# Altium schematic symbol library R 1206 1% YAGEO.SchLib: 30 symbols
Pins are listed as number, name and electrical type; pins without a type are passive.

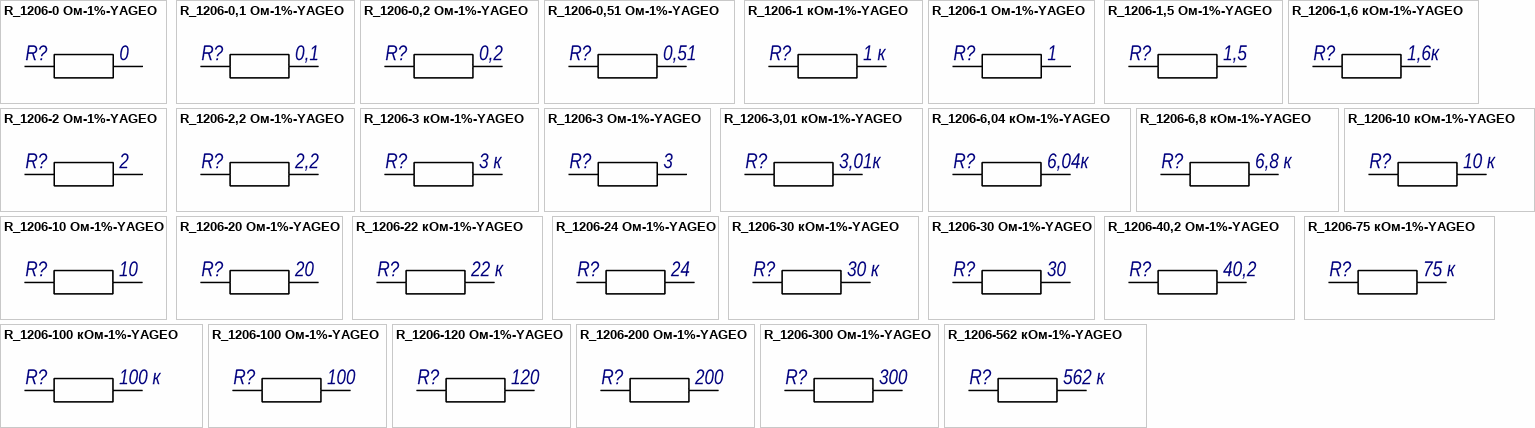
[diagram p0: symbols R_1206-0 Ом-1%-YAGEO to R_1206-562 кОм-1%-YAGEO]

## R_1206-0 Ом-1%-YAGEO
designator R?, comment value 0  (hidden comment: Резистор чип 1206-0,25 Вт-0 Ом ±1% фирма "YAGEO")
чип 1206-0,25 Вт-0 Ом ±1% фирма "YAGEO"; Power: 0,25 Вт; Tol: 1%; Manufacturer: фирма "YAGEO"; GOST: Резистор чип 1206-0,25 Вт-0 Ом ±1% фирма "YAGEO"; Name: Резистор; TYP: чип 1206
footprint R1206_H06M (Dim 3.2mm*1.6mm H=0.6mm)
pins: 1, 2
1 alternate drawing of the same symbol

## R_1206-0,1 Ом-1%-YAGEO
designator R?, comment value 0,1  (hidden comment: Резистор чип 1206-0,25 Вт-0,1 Ом ±1% фирма "YAGEO")
чип 1206-0,25 Вт-0,1 Ом ±1% фирма "YAGEO"; Power: 0,25 Вт; Tol: 1%; Manufacturer: фирма "YAGEO"; GOST: Резистор чип 1206-0,25 Вт-0,1 Ом ±1% фирма "YAGEO"; Name: Резистор; TYP: чип 1206
footprint R1206_H06M (Dim 3.2mm*1.6mm H=0.6mm)
pins: 1, 2
1 alternate drawing of the same symbol

## R_1206-0,2 Ом-1%-YAGEO
designator R?, comment value 0,2  (hidden comment: Резистор чип 1206-0,25 Вт-0,2 Ом ±1% фирма "YAGEO")
чип 1206-0,25 Вт-0,2 Ом ±1% фирма "YAGEO"; Power: 0,25 Вт; Tol: 1%; Manufacturer: фирма "YAGEO"; GOST: Резистор чип 1206-0,25 Вт-0,2 Ом ±1% фирма "YAGEO"; Name: Резистор; TYP: чип 1206
footprint R1206_H06M (Dim 3.2mm*1.6mm H=0.6mm)
pins: 1, 2
1 alternate drawing of the same symbol

## R_1206-0,51 Ом-1%-YAGEO
designator R?, comment value 0,51  (hidden comment: Резистор чип 1206-0,25 Вт-0,51 Ом ±1% фирма "YAGEO")
чип 1206-0,25 Вт-0,51 Ом ±1% фирма "YAGEO"; Power: 0,25 Вт; Tol: 1%; Manufacturer: фирма "YAGEO"; GOST: Резистор чип 1206-0,25 Вт-0,51 Ом ±1% фирма "YAGEO"; Name: Резистор; TYP: чип 1206
footprint R1206_H06M (Dim 3.2mm*1.6mm H=0.6mm)
pins: 1, 2
1 alternate drawing of the same symbol

## R_1206-1 кОм-1%-YAGEO
designator R?, comment value 1 к  (hidden comment: Резистор чип 1206-0,25 Вт-1 кОм ±1% фирма "YAGEO")
чип 1206-0,25 Вт-1 кОм ±1% фирма "YAGEO"; Power: 0,25 Вт; Tol: 1%; Manufacturer: фирма "YAGEO"; GOST: Резистор чип 1206-0,25 Вт-1 кОм ±1% фирма "YAGEO"; Name: Резистор; TYP: чип 1206
footprint R1206_H06M (Dim 3.2mm*1.6mm H=0.6mm)
pins: 1, 2
1 alternate drawing of the same symbol

## R_1206-1 Ом-1%-YAGEO
designator R?, comment value 1  (hidden comment: Резистор чип 1206-0,25 Вт-1 Ом ±1% фирма "YAGEO")
чип 1206-0,25 Вт-1 Ом ±1% фирма "YAGEO"; Power: 0,25 Вт; Tol: 1%; Manufacturer: фирма "YAGEO"; GOST: Резистор чип 1206-0,25 Вт-1 Ом ±1% фирма "YAGEO"; Name: Резистор; TYP: чип 1206
footprint R1206_H06M (Dim 3.2mm*1.6mm H=0.6mm)
pins: 1, 2
1 alternate drawing of the same symbol

## R_1206-1,5 Ом-1%-YAGEO
designator R?, comment value 1,5  (hidden comment: Резистор чип 1206-0,25 Вт-1,5 Ом ±1% фирма "YAGEO")
чип 1206-0,25 Вт-1,5 Ом ±1% фирма "YAGEO"; Power: 0,25 Вт; Tol: 1%; Manufacturer: фирма "YAGEO"; GOST: Резистор чип 1206-0,25 Вт-1,5 Ом ±1% фирма "YAGEO"; Name: Резистор; TYP: чип 1206
footprint R1206_H06M (Dim 3.2mm*1.6mm H=0.6mm)
pins: 1, 2
1 alternate drawing of the same symbol

## R_1206-1,6 кОм-1%-YAGEO
designator R?, comment value 1,6к  (hidden comment: Резистор чип 1206-0,25 Вт-1,6 кОм ±1% фирма "YAGEO")
чип 1206-0,25 Вт-1,6 кОм ±1% фирма "YAGEO"; Power: 0,25 Вт; Tol: 1%; Manufacturer: фирма "YAGEO"; GOST: Резистор чип 1206-0,25 Вт-1,6 кОм ±1% фирма "YAGEO"; Name: Резистор; TYP: чип 1206
footprint R1206_H06M (Dim 3.2mm*1.6mm H=0.6mm)
pins: 1, 2
1 alternate drawing of the same symbol

## R_1206-2 Ом-1%-YAGEO
designator R?, comment value 2  (hidden comment: Резистор чип 1206-0,25 Вт-2 Ом ±1% фирма "YAGEO")
чип 1206-0,25 Вт-2 Ом ±1% фирма "YAGEO"; Power: 0,25 Вт; Tol: 1%; Manufacturer: фирма "YAGEO"; GOST: Резистор чип 1206-0,25 Вт-2 Ом ±1% фирма "YAGEO"; Name: Резистор; TYP: чип 1206
footprint R1206_H06M (Dim 3.2mm*1.6mm H=0.6mm)
pins: 1, 2
1 alternate drawing of the same symbol

## R_1206-2,2 Ом-1%-YAGEO
designator R?, comment value 2,2  (hidden comment: Резистор чип 1206-0,25 Вт-2,2 Ом ±1% фирма "YAGEO")
чип 1206-0,25 Вт-2,2 Ом ±1% фирма "YAGEO"; Power: 0,25 Вт; Tol: 1%; Manufacturer: фирма "YAGEO"; GOST: Резистор чип 1206-0,25 Вт-2,2 Ом ±1% фирма "YAGEO"; Name: Резистор; TYP: чип 1206
footprint R1206_H06M (Dim 3.2mm*1.6mm H=0.6mm)
pins: 1, 2
1 alternate drawing of the same symbol

## R_1206-3 кОм-1%-YAGEO
designator R?, comment value 3 к  (hidden comment: Резистор чип 1206-0,25 Вт-3 кОм ±1% фирма "YAGEO")
чип 1206-0,25 Вт-3 кОм ±1% фирма "YAGEO"; Power: 0,25 Вт; Tol: 1%; Manufacturer: фирма "YAGEO"; GOST: Резистор чип 1206-0,25 Вт-3 кОм ±1% фирма "YAGEO"; Name: Резистор; TYP: чип 1206
footprint R1206_H06M (Dim 3.2mm*1.6mm H=0.6mm)
pins: 1, 2
1 alternate drawing of the same symbol

## R_1206-3 Ом-1%-YAGEO
designator R?, comment value 3  (hidden comment: Резистор чип 1206-0,25 Вт-3 Ом ±1% фирма "YAGEO")
чип 1206-0,25 Вт-3 Ом ±1% фирма "YAGEO"; PartNumber: RT1206FRE073RL; Power: 0,25 Вт; Tol: 1%; Manufacturer: фирма "YAGEO"; GOST: Резистор чип 1206-0,25 Вт-3 Ом ±1% фирма "YAGEO"; Name: Резистор; TYP: чип 1206
footprint R1206_H06M (Dim 3.2mm*1.6mm H=0.6mm)
pins: 1, 2
1 alternate drawing of the same symbol

## R_1206-3,01 кОм-1%-YAGEO
designator R?, comment value 3,01к  (hidden comment: Резистор чип 1206-0,25 Вт-3,01 кОм ±1% фирма "YAGEO")
чип 1206-0,25 Вт-3,01 кОм ±1% фирма "YAGEO"; Power: 0,25 Вт; Tol: 1%; Manufacturer: фирма "YAGEO"; GOST: Резистор чип 1206-0,25 Вт-3,01 кОм ±1% фирма "YAGEO"; Name: Резистор; TYP: чип 1206
footprint R1206_H06M (Dim 3.2mm*1.6mm H=0.6mm)
pins: 1, 2
1 alternate drawing of the same symbol

## R_1206-6,04 кОм-1%-YAGEO
designator R?, comment value 6,04к  (hidden comment: Резистор чип 1206-0,25 Вт-6,04 кОм ±1% фирма "YAGEO")
чип 1206-0,25 Вт-6,04 кОм ±1% фирма "YAGEO"; Power: 0,25 Вт; Tol: 1%; Manufacturer: фирма "YAGEO"; GOST: Резистор чип 1206-0,25 Вт-6,04 кОм ±1% фирма "YAGEO"; Name: Резистор; TYP: чип 1206
footprint R1206_H06M (Dim 3.2mm*1.6mm H=0.6mm)
pins: 1, 2
1 alternate drawing of the same symbol

## R_1206-6,8 кОм-1%-YAGEO
designator R?, comment value 6,8 к  (hidden comment: Резистор чип 1206-0,25 Вт-6,8 кОм ±1% фирма "YAGEO")
чип 1206-0,25 Вт-6,8 кОм ±1% фирма "YAGEO"; Power: 0,25 Вт; Tol: 1%; Manufacturer: фирма "YAGEO"; GOST: Резистор чип 1206-0,25 Вт-6,8 кОм ±1% фирма "YAGEO"; Name: Резистор; TYP: чип 1206
footprint R1206_H06M (Dim 3.2mm*1.6mm H=0.6mm)
pins: 1, 2
1 alternate drawing of the same symbol

## R_1206-10 кОм-1%-YAGEO
designator R?, comment value 10 к  (hidden comment: Резистор чип 1206-0,25 Вт-10 кОм ±1% фирма "YAGEO")
чип 1206-0,25 Вт-10 кОм ±1% фирма "YAGEO"; Power: 0,25 Вт; Tol: 1%; Manufacturer: фирма "YAGEO"; GOST: Резистор чип 1206-0,25 Вт-10 кОм ±1% фирма "YAGEO"; Name: Резистор; TYP: чип 1206
footprint R1206_H06M (Dim 3.2mm*1.6mm H=0.6mm)
pins: 1, 2
1 alternate drawing of the same symbol

## R_1206-10 Ом-1%-YAGEO
designator R?, comment value 10  (hidden comment: Резистор чип 1206-0,25 Вт-10 Ом ±1% фирма "YAGEO")
чип 1206-0,25 Вт-10 Ом ±1% фирма "YAGEO"; Power: 0,25 Вт; Tol: 1%; Manufacturer: фирма "YAGEO"; GOST: Резистор чип 1206-0,25 Вт-10 Ом ±1% фирма "YAGEO"; Name: Резистор; TYP: чип 1206
footprint R1206_H06M (Dim 3.2mm*1.6mm H=0.6mm)
pins: 1, 2
1 alternate drawing of the same symbol

## R_1206-20 Ом-1%-YAGEO
designator R?, comment value 20  (hidden comment: Резистор чип 1206-0,25 Вт-20 Ом ±1% фирма "YAGEO")
чип 1206-0,25 Вт-20 Ом ±1% фирма "YAGEO"; Power: 0,25 Вт; Tol: 1%; Manufacturer: фирма "YAGEO"; GOST: Резистор чип 1206-0,25 Вт-20 Ом ±1% фирма "YAGEO"; Name: Резистор; TYP: чип 1206
footprint R1206_H06M (Dim 3.2mm*1.6mm H=0.6mm)
pins: 1, 2
1 alternate drawing of the same symbol

## R_1206-22 кОм-1%-YAGEO
designator R?, comment value 22 к  (hidden comment: Резистор чип 1206-0,25 Вт-22 кОм ±1% фирма "YAGEO")
чип 1206-0,25 Вт-22 кОм ±1% фирма "YAGEO"; Power: 0,25 Вт; Tol: 1%; Manufacturer: фирма "YAGEO"; GOST: Резистор чип 1206-0,25 Вт-22 кОм ±1% фирма "YAGEO"; Name: Резистор; TYP: чип 1206
footprint R1206_H06M (Dim 3.2mm*1.6mm H=0.6mm)
pins: 1, 2
1 alternate drawing of the same symbol

## R_1206-24 Ом-1%-YAGEO
designator R?, comment value 24  (hidden comment: Резистор чип 1206-0,25 Вт-24 Ом ±1% фирма "YAGEO")
чип 1206-0,25 Вт-24 Ом ±1% фирма "YAGEO"; Power: 0,25 Вт; Tol: 1%; Manufacturer: фирма "YAGEO"; GOST: Резистор чип 1206-0,25 Вт-24 Ом ±1% фирма "YAGEO"; Name: Резистор; TYP: чип 1206
footprint R1206_H06M (Dim 3.2mm*1.6mm H=0.6mm)
pins: 1, 2
1 alternate drawing of the same symbol

## R_1206-30 кОм-1%-YAGEO
designator R?, comment value 30 к  (hidden comment: Резистор чип 1206-0,25 Вт-30 кОм ±1% фирма "YAGEO")
чип 1206-0,25 Вт-30 кОм ±1% фирма "YAGEO"; Power: 0,25 Вт; Tol: 1%; Manufacturer: фирма "YAGEO"; GOST: Резистор чип 1206-0,25 Вт-30 кОм ±1% фирма "YAGEO"; Name: Резистор; TYP: чип 1206
footprint R1206_H06M (Dim 3.2mm*1.6mm H=0.6mm)
pins: 1, 2
1 alternate drawing of the same symbol

## R_1206-30 Ом-1%-YAGEO
designator R?, comment value 30  (hidden comment: Резистор чип 1206-0,25 Вт-30 Ом ±1% фирма "YAGEO")
чип 1206-0,25 Вт-30 Ом ±1% фирма "YAGEO"; Power: 0,25 Вт; Tol: 1%; Manufacturer: фирма "YAGEO"; GOST: Резистор чип 1206-0,25 Вт-30 Ом ±1% фирма "YAGEO"; Name: Резистор; TYP: чип 1206
footprint R1206_H06M (Dim 3.2mm*1.6mm H=0.6mm)
pins: 1, 2
1 alternate drawing of the same symbol

## R_1206-40,2 Ом-1%-YAGEO
designator R?, comment value 40,2  (hidden comment: Резистор чип 1206-0,25 Вт-40,2 Ом ±1% фирма "YAGEO")
чип 1206-0,25 Вт-40,2 Ом ±1% фирма "YAGEO"; PartNumber: RC1206FR-0740R2L; Power: 0,25 Вт; Tol: 1%; Manufacturer: фирма "YAGEO"; GOST: Резистор чип 1206-0,25 Вт-40,2 Ом ±1% фирма "YAGEO"; Name: Резистор; TYP: чип 1206
footprint R1206_H06M (Dim 3.2mm*1.6mm H=0.6mm)
pins: 1, 2
1 alternate drawing of the same symbol

## R_1206-75 кОм-1%-YAGEO
designator R?, comment value 75 к  (hidden comment: Резистор чип 1206-0,25 Вт-75 кОм ±1% фирма "YAGEO")
чип 1206-0,25 Вт-75 кОм ±1% фирма "YAGEO"; Power: 0,25 Вт; Tol: 1%; Manufacturer: фирма "YAGEO"; GOST: Резистор чип 1206-0,25 Вт-75 кОм ±1% фирма "YAGEO"; Name: Резистор; TYP: чип 1206
footprint R1206_H06M (Dim 3.2mm*1.6mm H=0.6mm)
pins: 1, 2
1 alternate drawing of the same symbol

## R_1206-100 кОм-1%-YAGEO
designator R?, comment value 100 к  (hidden comment: Резистор чип 1206-0,25 Вт-100 кОм ±1% фирма "YAGEO")
чип 1206-0,25 Вт-100 кОм ±1% фирма "YAGEO"; Power: 0,25 Вт; Tol: 1%; Manufacturer: фирма "YAGEO"; GOST: Резистор чип 1206-0,25 Вт-100 кОм ±1% фирма "YAGEO"; Name: Резистор; TYP: чип 1206
footprint R1206_H06M (Dim 3.2mm*1.6mm H=0.6mm)
pins: 1, 2
1 alternate drawing of the same symbol

## R_1206-100 Ом-1%-YAGEO
designator R?, comment value 100  (hidden comment: Резистор чип 1206-0,25 Вт-100 Ом ±1% фирма "YAGEO")
чип 1206-0,25 Вт-100 Ом ±1% фирма "YAGEO"; Power: 0,25 Вт; Tol: 1%; Manufacturer: фирма "YAGEO"; GOST: Резистор чип 1206-0,25 Вт-100 Ом ±1% фирма "YAGEO"; Name: Резистор; TYP: чип 1206
footprint R1206_H06M (Dim 3.2mm*1.6mm H=0.6mm)
pins: 1, 2
1 alternate drawing of the same symbol

## R_1206-120 Ом-1%-YAGEO
designator R?, comment value 120  (hidden comment: Резистор чип 1206-0,25 Вт-120 Ом ±1% фирма "YAGEO")
чип 1206-0,25 Вт-120 Ом ±1% фирма "YAGEO"; Power: 0,25 Вт; Tol: 1%; Manufacturer: фирма "YAGEO"; GOST: Резистор чип 1206-0,25 Вт-120 Ом ±1% фирма "YAGEO"; Name: Резистор; TYP: чип 1206
footprint R1206_H06M (Dim 3.2mm*1.6mm H=0.6mm)
pins: 1, 2
1 alternate drawing of the same symbol

## R_1206-200 Ом-1%-YAGEO
designator R?, comment value 200  (hidden comment: Резистор чип 1206-0,25 Вт-200 Ом ±1% фирма "YAGEO")
чип 1206-0,25 Вт-200 Ом ±1% фирма "YAGEO"; Power: 0,25 Вт; Tol: 1%; Manufacturer: фирма "YAGEO"; GOST: Резистор чип 1206-0,25 Вт-200 Ом ±1% фирма "YAGEO"; Name: Резистор; TYP: чип 1206
footprint R1206_H06M (Dim 3.2mm*1.6mm H=0.6mm)
pins: 1, 2
1 alternate drawing of the same symbol

## R_1206-300 Ом-1%-YAGEO
designator R?, comment value 300  (hidden comment: Резистор чип 1206-0,25 Вт-300 Ом ±1% фирма "YAGEO")
чип 1206-0,25 Вт-300 Ом ±1% фирма "YAGEO"; Power: 0,25 Вт; Tol: 1%; Manufacturer: фирма "YAGEO"; GOST: Резистор чип 1206-0,25 Вт-300 Ом ±1% фирма "YAGEO"; Name: Резистор; TYP: чип 1206
footprint R1206_H06M (Dim 3.2mm*1.6mm H=0.6mm)
pins: 1, 2
1 alternate drawing of the same symbol

## R_1206-562 кОм-1%-YAGEO
designator R?, comment value 562 к  (hidden comment: Резистор чип 1206-0,25 Вт-562 кОм ±1% фирма "YAGEO")
чип 1206-0,25 Вт-562 кОм ±1% фирма "YAGEO"; Power: 0,25 Вт; Tol: 1%; Manufacturer: фирма "YAGEO"; GOST: Резистор чип 1206-0,25 Вт-562 кОм ±1% фирма "YAGEO"; Name: Резистор; TYP: чип 1206
footprint R1206_H06M (Dim 3.2mm*1.6mm H=0.6mm)
pins: 1, 2
1 alternate drawing of the same symbol